# Altium footprint library IC_SOP.PcbLib: 36 footprints (part 2 of 4)
Each footprint in its own frame and in the unit in brackets; x right, y up, seen from the top. Pads: shape width x height; smd on the part's side, far side on the other; paste and mask are expansions set on the pad; w line width, h text height; cw(c..) or ccw(c..) is an arc to the next point about the centre after c.
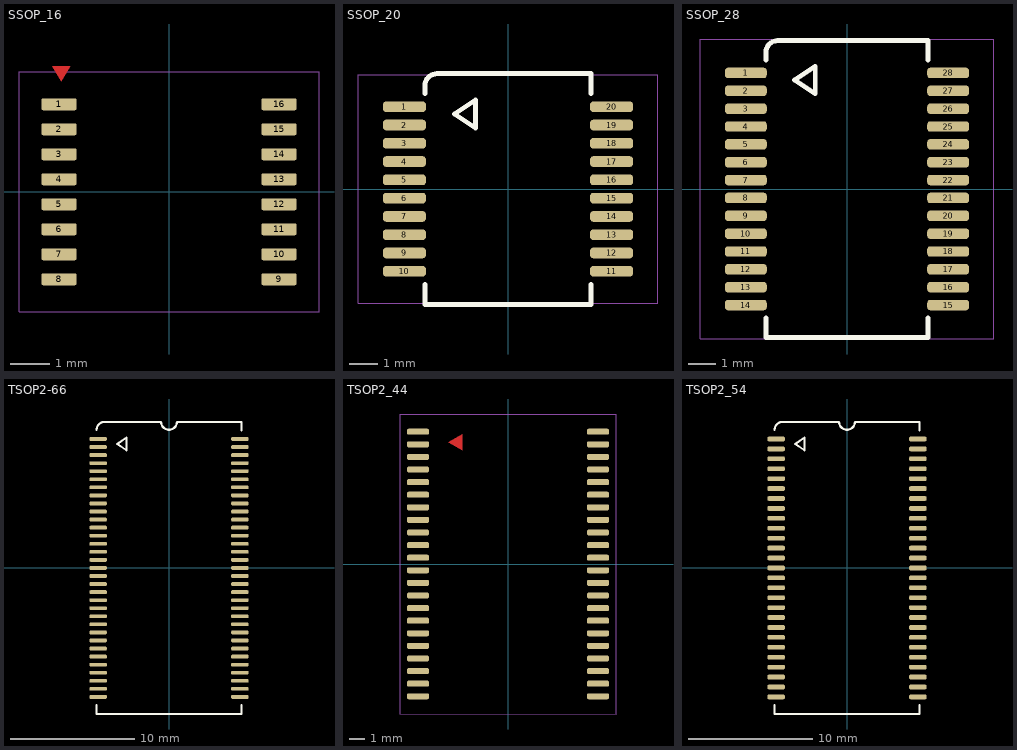
[diagram p1: the footprints below, top view; thin cyan lines are the x and y axes]

## SSOP_16 [mil]
pads (16):
  rrect30% 35x12 smd mask+2: 1(-110,87.5) 2(-110,62.5) 3(-110,37.5) 4(-110,12.5) 5(-110,-12.5) 6(-110,-37.5) 7(-110,-62.5) 8(-110,-87.5) 9(110,-87.5) 10(110,-62.5) 11(110,-37.5) 12(110,-12.5) 13(110,12.5) 14(110,37.5) 15(110,62.5) 16(110,87.5)
Top Layer:
  region: -108,110.73 -99,125.73 -117,125.73
Top Courtyard:
  lines w1: -150,-120 -150,120 150,120 150,-120 -150,-120
3D body "DBQ0016A.stp": height 62.5, standoff -1.5, extent -118.56,-96.49 118.56,96.5

## SSOP_20 [mil]
pads (20):
  rrect60% 60x15 smd: 1(-145,115.16) 2(-145,89.57) 3(-145,63.98) 4(-145,38.39) 5(-145,12.8) 6(-145,-12.8) 7(-145,-38.39) 8(-145,-63.98) 9(-145,-89.57) 10(-145,-115.16) 11(145,-115.16) 12(145,-89.57) 13(145,-63.98) 14(145,-38.39) 15(145,-12.8) 16(145,12.8) 17(145,38.39) 18(145,63.98) 19(145,89.57) 20(145,115.16)
Top Overlay:
  lines w7: -116.14,-133.86 -116.14,-161.42 116.14,-161.42 116.14,-133.86 ; -116.14,133.86 -116.14,144.99 cw(c-99.72,144.99) -99.72,161.42 116.14,161.42 116.14,133.86 ; -75,105 -45.47,85.31 -45.47,124.69 -75,105
Top Courtyard:
  lines w1: -210,-160 -210,160 210,160 210,-160 -210,-160
3D body: height 36, standoff 29, extent 99.57,-121.16 124.57,-109.16
3D body: height 7, standoff 0, extent 134.57,-121.16 154.57,-109.16
3D body: height 36, standoff 0, extent 124.57,-121.16 134.57,-109.16
3D body: height 36, standoff 29, extent 99.57,-95.57 124.57,-83.57
3D body: height 7, standoff 0, extent 134.57,-95.57 154.57,-83.57
3D body: height 36, standoff 0, extent 124.57,-95.57 134.57,-83.57
3D body: height 36, standoff 29, extent 99.57,-69.98 124.57,-57.98
3D body: height 7, standoff 0, extent 134.57,-69.98 154.57,-57.98
3D body: height 36, standoff 0, extent 124.57,-69.98 134.57,-57.98
3D body: height 36, standoff 29, extent 99.57,-44.39 124.57,-32.39
3D body: height 7, standoff 0, extent 134.57,-44.39 154.57,-32.39
3D body: height 36, standoff 0, extent 124.57,-44.39 134.57,-32.39
3D body: height 36, standoff 29, extent 99.57,-18.8 124.57,-6.8
3D body: height 7, standoff 0, extent 134.57,-18.8 154.57,-6.8
3D body: height 36, standoff 0, extent 124.57,-18.8 134.57,-6.8
3D body: height 36, standoff 29, extent 99.57,6.8 124.57,18.8
3D body: height 7, standoff 0, extent 134.57,6.8 154.57,18.8
3D body: height 36, standoff 0, extent 124.57,6.8 134.57,18.8
3D body: height 36, standoff 29, extent 99.57,32.39 124.57,44.39
3D body: height 7, standoff 0, extent 134.57,32.39 154.57,44.39
3D body: height 36, standoff 0, extent 124.57,32.39 134.57,44.39
3D body: height 36, standoff 29, extent 99.57,57.98 124.57,69.98
3D body: height 7, standoff 0, extent 134.57,57.98 154.57,69.98
3D body: height 36, standoff 0, extent 124.57,57.98 134.57,69.98
3D body: height 36, standoff 29, extent 99.57,83.57 124.57,95.57
3D body: height 7, standoff 0, extent 134.57,83.57 154.57,95.57
3D body: height 36, standoff 0, extent 124.57,83.57 134.57,95.57
3D body: height 36, standoff 29, extent 99.57,109.16 124.57,121.16
3D body: height 7, standoff 0, extent 134.57,109.16 154.57,121.16
3D body: height 36, standoff 0, extent 124.57,109.16 134.57,121.16
3D body: height 36, standoff 0, extent -134.57,-121.16 -124.57,-109.16
3D body: height 7, standoff 0, extent -154.57,-121.16 -134.57,-109.16
3D body: height 36, standoff 29, extent -124.57,-121.16 -99.57,-109.16
3D body: height 36, standoff 0, extent -134.57,-95.57 -124.57,-83.57
3D body: height 7, standoff 0, extent -154.57,-95.57 -134.57,-83.57
3D body: height 36, standoff 29, extent -124.57,-95.57 -99.57,-83.57
3D body: height 36, standoff 0, extent -134.57,-69.98 -124.57,-57.98
3D body: height 7, standoff 0, extent -154.57,-69.98 -134.57,-57.98
3D body: height 36, standoff 29, extent -124.57,-69.98 -99.57,-57.98
3D body: height 36, standoff 0, extent -134.57,-44.39 -124.57,-32.39
3D body: height 7, standoff 0, extent -154.57,-44.39 -134.57,-32.39
3D body: height 36, standoff 29, extent -124.57,-44.39 -99.57,-32.39
3D body: height 36, standoff 0, extent -134.57,-18.8 -124.57,-6.8
3D body: height 7, standoff 0, extent -154.57,-18.8 -134.57,-6.8
3D body: height 36, standoff 29, extent -124.57,-18.8 -99.57,-6.8
3D body: height 36, standoff 0, extent -134.57,6.8 -124.57,18.8
3D body: height 7, standoff 0, extent -154.57,6.8 -134.57,18.8
3D body: height 36, standoff 29, extent -124.57,6.8 -99.57,18.8
3D body: height 36, standoff 0, extent -134.57,32.39 -124.57,44.39
3D body: height 7, standoff 0, extent -154.57,32.39 -134.57,44.39
3D body: height 36, standoff 29, extent -124.57,32.39 -99.57,44.39
3D body: height 36, standoff 0, extent -134.57,57.98 -124.57,69.98
3D body: height 7, standoff 0, extent -154.57,57.98 -134.57,69.98
3D body: height 36, standoff 29, extent -124.57,57.98 -99.57,69.98
3D body: height 36, standoff 0, extent -134.57,83.57 -124.57,95.57
3D body: height 7, standoff 0, extent -154.57,83.57 -134.57,95.57
3D body: height 36, standoff 29, extent -124.57,83.57 -99.57,95.57
3D body: height 36, standoff 0, extent -134.57,109.16 -124.57,121.16
3D body: height 7, standoff 0, extent -154.57,109.16 -134.57,121.16
3D body: height 36, standoff 29, extent -124.57,109.16 -99.57,121.16
3D body: height 72, standoff 5, extent -104.33,-149.61 104.33,149.61
3D body: height 72.5, standoff 72, extent -92,104 -66,130

## SSOP_28 [mil]
pads (28):
  rrect60% 60x15 smd: 1(-145,166.34) 2(-145,140.75) 3(-145,115.16) 4(-145,89.57) 5(-145,63.98) 6(-145,38.39) 7(-145,12.8) 8(-145,-12.8) 9(-145,-38.39) 10(-145,-63.98) 11(-145,-89.57) 12(-145,-115.16) 13(-145,-140.75) 14(-145,-166.34) 15(145,-166.34) 16(145,-140.75) 17(145,-115.16) 18(145,-89.57) 19(145,-63.98) 20(145,-38.39) 21(145,-12.8) 22(145,12.8) 23(145,38.39) 24(145,63.98) 25(145,89.57) 26(145,115.16) 27(145,140.75) 28(145,166.34)
Top Overlay:
  lines w7: -116.14,-185.04 -116.14,-212.6 116.14,-212.6 116.14,-185.04 ; -116.14,185.04 -116.14,196.18 cw(c-99.72,196.18) -99.72,212.6 116.14,212.6 116.14,185.04 ; -75,156.18 -45.47,175.87 -45.47,136.5 -75,156.18
Top Courtyard:
  lines w1: -210,-215 210,-215 210,215 -210,215 -210,-215
3D body: height 72.5, standoff 72, extent -92,155.18 -66,181.18
3D body: height 72, standoff 5, extent -104.33,-200.79 104.33,200.79
3D body: height 36, standoff 29, extent -124.57,160.34 -99.57,172.34
3D body: height 7, standoff 0, extent -154.57,160.34 -134.57,172.34
3D body: height 36, standoff 0, extent -134.57,160.34 -124.57,172.34
3D body: height 36, standoff 29, extent -124.57,134.75 -99.57,146.75
3D body: height 7, standoff 0, extent -154.57,134.75 -134.57,146.75
3D body: height 36, standoff 0, extent -134.57,134.75 -124.57,146.75
3D body: height 36, standoff 29, extent -124.57,109.16 -99.57,121.16
3D body: height 7, standoff 0, extent -154.57,109.16 -134.57,121.16
3D body: height 36, standoff 0, extent -134.57,109.16 -124.57,121.16
3D body: height 36, standoff 29, extent -124.57,83.57 -99.57,95.57
3D body: height 7, standoff 0, extent -154.57,83.57 -134.57,95.57
3D body: height 36, standoff 0, extent -134.57,83.57 -124.57,95.57
3D body: height 36, standoff 29, extent -124.57,57.98 -99.57,69.98
3D body: height 7, standoff 0, extent -154.57,57.98 -134.57,69.98
3D body: height 36, standoff 0, extent -134.57,57.98 -124.57,69.98
3D body: height 36, standoff 29, extent -124.57,32.39 -99.57,44.39
3D body: height 7, standoff 0, extent -154.57,32.39 -134.57,44.39
3D body: height 36, standoff 0, extent -134.57,32.39 -124.57,44.39
3D body: height 36, standoff 29, extent -124.57,6.8 -99.57,18.8
3D body: height 7, standoff 0, extent -154.57,6.8 -134.57,18.8
3D body: height 36, standoff 0, extent -134.57,6.8 -124.57,18.8
3D body: height 36, standoff 29, extent -124.57,-18.8 -99.57,-6.8
3D body: height 7, standoff 0, extent -154.57,-18.8 -134.57,-6.8
3D body: height 36, standoff 0, extent -134.57,-18.8 -124.57,-6.8
3D body: height 36, standoff 29, extent -124.57,-44.39 -99.57,-32.39
3D body: height 7, standoff 0, extent -154.57,-44.39 -134.57,-32.39
3D body: height 36, standoff 0, extent -134.57,-44.39 -124.57,-32.39
3D body: height 36, standoff 29, extent -124.57,-69.98 -99.57,-57.98
3D body: height 7, standoff 0, extent -154.57,-69.98 -134.57,-57.98
3D body: height 36, standoff 0, extent -134.57,-69.98 -124.57,-57.98
3D body: height 36, standoff 0, extent 124.57,160.34 134.57,172.34
3D body: height 7, standoff 0, extent 134.57,160.34 154.57,172.34
3D body: height 36, standoff 29, extent 99.57,160.34 124.57,172.34
3D body: height 36, standoff 0, extent 124.57,134.75 134.57,146.75
3D body: height 7, standoff 0, extent 134.57,134.75 154.57,146.75
3D body: height 36, standoff 29, extent 99.57,134.75 124.57,146.75
3D body: height 36, standoff 0, extent 124.57,109.16 134.57,121.16
3D body: height 7, standoff 0, extent 134.57,109.16 154.57,121.16
3D body: height 36, standoff 29, extent 99.57,109.16 124.57,121.16
3D body: height 36, standoff 0, extent 124.57,83.57 134.57,95.57
3D body: height 7, standoff 0, extent 134.57,83.57 154.57,95.57
3D body: height 36, standoff 29, extent 99.57,83.57 124.57,95.57
3D body: height 36, standoff 0, extent 124.57,57.98 134.57,69.98
3D body: height 7, standoff 0, extent 134.57,57.98 154.57,69.98
3D body: height 36, standoff 29, extent 99.57,57.98 124.57,69.98
3D body: height 36, standoff 0, extent 124.57,32.39 134.57,44.39
3D body: height 7, standoff 0, extent 134.57,32.39 154.57,44.39
3D body: height 36, standoff 29, extent 99.57,32.39 124.57,44.39
3D body: height 36, standoff 0, extent 124.57,6.8 134.57,18.8
3D body: height 7, standoff 0, extent 134.57,6.8 154.57,18.8
3D body: height 36, standoff 29, extent 99.57,6.8 124.57,18.8
3D body: height 36, standoff 0, extent 124.57,-18.8 134.57,-6.8
3D body: height 7, standoff 0, extent 134.57,-18.8 154.57,-6.8
3D body: height 36, standoff 29, extent 99.57,-18.8 124.57,-6.8
3D body: height 36, standoff 0, extent 124.57,-44.39 134.57,-32.39
3D body: height 7, standoff 0, extent 134.57,-44.39 154.57,-32.39
3D body: height 36, standoff 29, extent 99.57,-44.39 124.57,-32.39
3D body: height 36, standoff 0, extent 124.57,-69.98 134.57,-57.98
3D body: height 7, standoff 0, extent 134.57,-69.98 154.57,-57.98
3D body: height 36, standoff 29, extent 99.57,-69.98 124.57,-57.98
3D body: height 36, standoff 29, extent 99.57,-172.34 124.57,-160.34
3D body: height 7, standoff 0, extent 134.57,-172.34 154.57,-160.34
3D body: height 36, standoff 0, extent 124.57,-172.34 134.57,-160.34
3D body: height 36, standoff 29, extent 99.57,-146.75 124.57,-134.75
3D body: height 7, standoff 0, extent 134.57,-146.75 154.57,-134.75
3D body: height 36, standoff 0, extent 124.57,-146.75 134.57,-134.75
3D body: height 36, standoff 29, extent 99.57,-121.16 124.57,-109.16
3D body: height 7, standoff 0, extent 134.57,-121.16 154.57,-109.16
3D body: height 36, standoff 0, extent 124.57,-121.16 134.57,-109.16
3D body: height 36, standoff 29, extent 99.57,-95.57 124.57,-83.57
3D body: height 7, standoff 0, extent 134.57,-95.57 154.57,-83.57
3D body: height 36, standoff 0, extent 124.57,-95.57 134.57,-83.57
3D body: height 36, standoff 0, extent -134.57,-172.34 -124.57,-160.34
3D body: height 7, standoff 0, extent -154.57,-172.34 -134.57,-160.34
3D body: height 36, standoff 29, extent -124.57,-172.34 -99.57,-160.34
3D body: height 36, standoff 0, extent -134.57,-146.75 -124.57,-134.75
3D body: height 7, standoff 0, extent -154.57,-146.75 -134.57,-134.75
3D body: height 36, standoff 29, extent -124.57,-146.75 -99.57,-134.75
3D body: height 36, standoff 0, extent -134.57,-121.16 -124.57,-109.16
3D body: height 7, standoff 0, extent -154.57,-121.16 -134.57,-109.16
3D body: height 36, standoff 29, extent -124.57,-121.16 -99.57,-109.16
3D body: height 36, standoff 0, extent -134.57,-95.57 -124.57,-83.57
3D body: height 7, standoff 0, extent -154.57,-95.57 -134.57,-83.57
3D body: height 36, standoff 29, extent -124.57,-95.57 -99.57,-83.57

## TSOP2-66 [mil]
pads (66):
  rrect60% 55x12 smd: 1(-225,409.45) 2(-225,383.86) 3(-225,358.27) 4(-225,332.68) 5(-225,307.09) 6(-225,281.5) 7(-225,255.91) 8(-225,230.31) 9(-225,204.72) 10(-225,179.13) 11(-225,153.54) 12(-225,127.95) 13(-225,102.36) 14(-225,76.77) 15(-225,51.18) 16(-225,25.59) 17(-225,0) 18(-225,-25.59) 19(-225,-51.18) 20(-225,-76.77) 21(-225,-102.36) 22(-225,-127.95) 23(-225,-153.54) 24(-225,-179.13) 25(-225,-204.72) 26(-225,-230.31) 27(-225,-255.91) 28(-225,-281.5) 29(-225,-307.09) 30(-225,-332.68) 31(-225,-358.27) 32(-225,-383.86) 33(-225,-409.45) 34(225,-409.45) 35(225,-383.86) 36(225,-358.27) 37(225,-332.68) 38(225,-307.09) 39(225,-281.5) 40(225,-255.91) 41(225,-230.31) 42(225,-204.72) 43(225,-179.13) 44(225,-153.54) 45(225,-127.95) 46(225,-102.36) 47(225,-76.77) 48(225,-51.18) 49(225,-25.59) 50(225,0) 51(225,25.59) 52(225,51.18) 53(225,76.77) 54(225,102.36) 55(225,127.95) 56(225,153.54) 57(225,179.13) 58(225,204.72) 59(225,230.31) 60(225,255.91) 61(225,281.5) 62(225,307.09) 63(225,332.68) 64(225,358.27) 65(225,383.86) 66(225,409.45)
Top Overlay:
  lines w7: -230,-436.18 -230,-463.74 230,-463.74 230,-436.18 ; -230,438.74 cw(c-205,438.74) -205,463.74 -25,463.74 ccw(c0,463.74) 25,463.74 230,463.74 230,436.18 ; -165,393.74 -135,413.74 -135,373.74 -165,393.74
3D body: height 38, standoff 31, extent -213,403 -197,416
3D body: height 38, standoff 0, extent -220,404 -213,415
3D body: height 7, standoff 0, extent -232,404 -220,415
3D body: height 48, standoff 5, extent -200,-437.4 200,437.4
3D body: height 48.5, standoff 48, extent -173,387 -147,413
3D body: height 7, standoff 0, extent -232,378.41 -220,389.41
3D body: height 38, standoff 0, extent -220,378.41 -213,389.41
3D body: height 38, standoff 31, extent -213,377.41 -197,390.41
3D body: height 7, standoff 0, extent -232,352.82 -220,363.82
3D body: height 38, standoff 0, extent -220,352.82 -213,363.82
3D body: height 38, standoff 31, extent -213,351.82 -197,364.82
3D body: height 7, standoff 0, extent -232,327.23 -220,338.23
3D body: height 38, standoff 0, extent -220,327.23 -213,338.23
3D body: height 38, standoff 31, extent -213,326.23 -197,339.23
3D body: height 7, standoff 0, extent -232,301.64 -220,312.64
3D body: height 38, standoff 0, extent -220,301.64 -213,312.64
3D body: height 38, standoff 31, extent -213,300.64 -197,313.64
3D body: height 7, standoff 0, extent -232,276.05 -220,287.05
3D body: height 38, standoff 0, extent -220,276.05 -213,287.05
3D body: height 38, standoff 31, extent -213,275.05 -197,288.05
3D body: height 38, standoff 31, extent -213,121.5 -197,134.5
3D body: height 38, standoff 0, extent -220,122.5 -213,133.5
3D body: height 7, standoff 0, extent -232,122.5 -220,133.5
3D body: height 38, standoff 31, extent -213,147.09 -197,160.09
3D body: height 38, standoff 0, extent -220,148.09 -213,159.09
3D body: height 7, standoff 0, extent -232,148.09 -220,159.09
3D body: height 38, standoff 31, extent -213,172.69 -197,185.69
3D body: height 38, standoff 0, extent -220,173.69 -213,184.69
3D body: height 7, standoff 0, extent -232,173.69 -220,184.69
3D body: height 38, standoff 31, extent -213,198.28 -197,211.28
3D body: height 38, standoff 0, extent -220,199.28 -213,210.28
3D body: height 7, standoff 0, extent -232,199.28 -220,210.28
3D body: height 38, standoff 31, extent -213,223.87 -197,236.87
3D body: height 38, standoff 0, extent -220,224.87 -213,235.87
3D body: height 7, standoff 0, extent -232,224.87 -220,235.87
3D body: height 7, standoff 0, extent -232,250.46 -220,261.46
3D body: height 38, standoff 0, extent -220,250.46 -213,261.46
3D body: height 38, standoff 31, extent -213,249.46 -197,262.46
3D body: height 38, standoff 31, extent -213,-32.04 -197,-19.04
3D body: height 38, standoff 0, extent -220,-31.04 -213,-20.04
3D body: height 7, standoff 0, extent -232,-31.04 -220,-20.04
3D body: height 38, standoff 31, extent -213,-6.45 -197,6.55
3D body: height 38, standoff 0, extent -220,-5.45 -213,5.55
3D body: height 7, standoff 0, extent -232,-5.45 -220,5.55
3D body: height 38, standoff 31, extent -213,19.14 -197,32.14
3D body: height 38, standoff 0, extent -220,20.14 -213,31.14
3D body: height 7, standoff 0, extent -232,20.14 -220,31.14
3D body: height 38, standoff 31, extent -213,44.73 -197,57.73
3D body: height 38, standoff 0, extent -220,45.73 -213,56.73
3D body: height 7, standoff 0, extent -232,45.73 -220,56.73
3D body: height 38, standoff 31, extent -213,70.32 -197,83.32
3D body: height 38, standoff 0, extent -220,71.32 -213,82.32
3D body: height 7, standoff 0, extent -232,71.32 -220,82.32
3D body: height 7, standoff 0, extent -232,96.91 -220,107.91
3D body: height 38, standoff 0, extent -220,96.91 -213,107.91
3D body: height 38, standoff 31, extent -213,95.91 -197,108.91
3D body: height 38, standoff 31, extent -213,-185.58 -197,-172.58
3D body: height 38, standoff 0, extent -220,-184.58 -213,-173.58
3D body: height 7, standoff 0, extent -232,-184.58 -220,-173.58
3D body: height 38, standoff 31, extent -213,-159.99 -197,-146.99
3D body: height 38, standoff 0, extent -220,-158.99 -213,-147.99
3D body: height 7, standoff 0, extent -232,-158.99 -220,-147.99
3D body: height 38, standoff 31, extent -213,-134.4 -197,-121.4
3D body: height 38, standoff 0, extent -220,-133.4 -213,-122.4
3D body: height 7, standoff 0, extent -232,-133.4 -220,-122.4
3D body: height 38, standoff 31, extent -213,-108.81 -197,-95.81
3D body: height 38, standoff 0, extent -220,-107.81 -213,-96.81
3D body: height 7, standoff 0, extent -232,-107.81 -220,-96.81
3D body: height 38, standoff 31, extent -213,-83.22 -197,-70.22
3D body: height 38, standoff 0, extent -220,-82.22 -213,-71.22
3D body: height 7, standoff 0, extent -232,-82.22 -220,-71.22
3D body: height 7, standoff 0, extent -232,-56.63 -220,-45.63
3D body: height 38, standoff 0, extent -220,-56.63 -213,-45.63
3D body: height 38, standoff 31, extent -213,-57.63 -197,-44.63
3D body: height 38, standoff 31, extent -213,-339.13 -197,-326.13
3D body: height 38, standoff 0, extent -220,-338.13 -213,-327.13
3D body: height 7, standoff 0, extent -232,-338.13 -220,-327.13
3D body: height 38, standoff 31, extent -213,-313.54 -197,-300.54
3D body: height 38, standoff 0, extent -220,-312.54 -213,-301.54
3D body: height 7, standoff 0, extent -232,-312.54 -220,-301.54
3D body: height 38, standoff 31, extent -213,-287.94 -197,-274.94
3D body: height 38, standoff 0, extent -220,-286.94 -213,-275.94
3D body: height 7, standoff 0, extent -232,-286.94 -220,-275.94
3D body: height 38, standoff 31, extent -213,-262.35 -197,-249.35
3D body: height 38, standoff 0, extent -220,-261.35 -213,-250.35
3D body: height 7, standoff 0, extent -232,-261.35 -220,-250.35
3D body: height 38, standoff 31, extent -213,-236.76 -197,-223.76
3D body: height 38, standoff 0, extent -220,-235.76 -213,-224.76
3D body: height 7, standoff 0, extent -232,-235.76 -220,-224.76
3D body: height 7, standoff 0, extent -232,-210.17 -220,-199.17
3D body: height 38, standoff 0, extent -220,-210.17 -213,-199.17
3D body: height 38, standoff 31, extent -213,-211.17 -197,-198.17
3D body: height 38, standoff 31, extent -213,-415.9 -197,-402.9
3D body: height 38, standoff 0, extent -220,-414.9 -213,-403.9
3D body: height 7, standoff 0, extent -232,-414.9 -220,-403.9
3D body: height 38, standoff 31, extent -213,-390.31 -197,-377.31
3D body: height 38, standoff 0, extent -220,-389.31 -213,-378.31
3D body: height 7, standoff 0, extent -232,-389.31 -220,-378.31
3D body: height 7, standoff 0, extent -232,-363.72 -220,-352.72
3D body: height 38, standoff 0, extent -220,-363.72 -213,-352.72
3D body: height 38, standoff 31, extent -213,-364.72 -197,-351.72
3D body: height 38, standoff 31, extent 197,351.72 213,364.72
3D body: height 38, standoff 0, extent 213,352.72 220,363.72
3D body: height 7, standoff 0, extent 220,352.72 232,363.72
3D body: height 7, standoff 0, extent 220,378.31 232,389.31
3D body: height 38, standoff 0, extent 213,378.31 220,389.31
3D body: height 38, standoff 31, extent 197,377.31 213,390.31
3D body: height 7, standoff 0, extent 220,403.9 232,414.9
3D body: height 38, standoff 0, extent 213,403.9 220,414.9
3D body: height 38, standoff 31, extent 197,402.9 213,415.9
3D body: height 38, standoff 31, extent 197,198.17 213,211.17
3D body: height 38, standoff 0, extent 213,199.17 220,210.17
3D body: height 7, standoff 0, extent 220,199.17 232,210.17
3D body: height 7, standoff 0, extent 220,224.76 232,235.76
3D body: height 38, standoff 0, extent 213,224.76 220,235.76
3D body: height 38, standoff 31, extent 197,223.76 213,236.76
3D body: height 7, standoff 0, extent 220,250.35 232,261.35
3D body: height 38, standoff 0, extent 213,250.35 220,261.35
3D body: height 38, standoff 31, extent 197,249.35 213,262.35
3D body: height 7, standoff 0, extent 220,275.94 232,286.94
3D body: height 38, standoff 0, extent 213,275.94 220,286.94
3D body: height 38, standoff 31, extent 197,274.94 213,287.94
3D body: height 7, standoff 0, extent 220,301.54 232,312.54
3D body: height 38, standoff 0, extent 213,301.54 220,312.54
3D body: height 38, standoff 31, extent 197,300.54 213,313.54
3D body: height 7, standoff 0, extent 220,327.13 232,338.13
3D body: height 38, standoff 0, extent 213,327.13 220,338.13
3D body: height 38, standoff 31, extent 197,326.13 213,339.13
3D body: height 38, standoff 31, extent 197,44.63 213,57.63
3D body: height 38, standoff 0, extent 213,45.63 220,56.63
3D body: height 7, standoff 0, extent 220,45.63 232,56.63
3D body: height 7, standoff 0, extent 220,71.22 232,82.22
3D body: height 38, standoff 0, extent 213,71.22 220,82.22
3D body: height 38, standoff 31, extent 197,70.22 213,83.22
3D body: height 7, standoff 0, extent 220,96.81 232,107.81
3D body: height 38, standoff 0, extent 213,96.81 220,107.81
3D body: height 38, standoff 31, extent 197,95.81 213,108.81
3D body: height 7, standoff 0, extent 220,122.4 232,133.4
3D body: height 38, standoff 0, extent 213,122.4 220,133.4
3D body: height 38, standoff 31, extent 197,121.4 213,134.4
3D body: height 7, standoff 0, extent 220,147.99 232,158.99
3D body: height 38, standoff 0, extent 213,147.99 220,158.99
3D body: height 38, standoff 31, extent 197,146.99 213,159.99
3D body: height 7, standoff 0, extent 220,173.58 232,184.58
3D body: height 38, standoff 0, extent 213,173.58 220,184.58
3D body: height 38, standoff 31, extent 197,172.58 213,185.58
3D body: height 38, standoff 31, extent 197,-108.91 213,-95.91
3D body: height 38, standoff 0, extent 213,-107.91 220,-96.91
3D body: height 7, standoff 0, extent 220,-107.91 232,-96.91
3D body: height 7, standoff 0, extent 220,-82.32 232,-71.32
3D body: height 38, standoff 0, extent 213,-82.32 220,-71.32
3D body: height 38, standoff 31, extent 197,-83.32 213,-70.32
3D body: height 7, standoff 0, extent 220,-56.73 232,-45.73
3D body: height 38, standoff 0, extent 213,-56.73 220,-45.73
3D body: height 38, standoff 31, extent 197,-57.73 213,-44.73
3D body: height 7, standoff 0, extent 220,-31.14 232,-20.14
3D body: height 38, standoff 0, extent 213,-31.14 220,-20.14
3D body: height 38, standoff 31, extent 197,-32.14 213,-19.14
3D body: height 7, standoff 0, extent 220,-5.55 232,5.45
3D body: height 38, standoff 0, extent 213,-5.55 220,5.45
3D body: height 38, standoff 31, extent 197,-6.55 213,6.45
3D body: height 7, standoff 0, extent 220,20.04 232,31.04
3D body: height 38, standoff 0, extent 213,20.04 220,31.04
3D body: height 38, standoff 31, extent 197,19.04 213,32.04
3D body: height 38, standoff 31, extent 197,-262.46 213,-249.46
3D body: height 38, standoff 0, extent 213,-261.46 220,-250.46
3D body: height 7, standoff 0, extent 220,-261.46 232,-250.46
3D body: height 7, standoff 0, extent 220,-235.87 232,-224.87
3D body: height 38, standoff 0, extent 213,-235.87 220,-224.87
3D body: height 38, standoff 31, extent 197,-236.87 213,-223.87
3D body: height 7, standoff 0, extent 220,-210.28 232,-199.28
3D body: height 38, standoff 0, extent 213,-210.28 220,-199.28
3D body: height 38, standoff 31, extent 197,-211.28 213,-198.28
3D body: height 7, standoff 0, extent 220,-184.69 232,-173.69
3D body: height 38, standoff 0, extent 213,-184.69 220,-173.69
3D body: height 38, standoff 31, extent 197,-185.69 213,-172.69
3D body: height 7, standoff 0, extent 220,-159.09 232,-148.09
3D body: height 38, standoff 0, extent 213,-159.09 220,-148.09
3D body: height 38, standoff 31, extent 197,-160.09 213,-147.09
3D body: height 7, standoff 0, extent 220,-133.5 232,-122.5
3D body: height 38, standoff 0, extent 213,-133.5 220,-122.5
3D body: height 38, standoff 31, extent 197,-134.5 213,-121.5
3D body: height 38, standoff 31, extent 197,-288.05 213,-275.05
3D body: height 38, standoff 0, extent 213,-287.05 220,-276.05
3D body: height 7, standoff 0, extent 220,-287.05 232,-276.05
3D body: height 38, standoff 31, extent 197,-313.64 213,-300.64
3D body: height 38, standoff 0, extent 213,-312.64 220,-301.64
3D body: height 7, standoff 0, extent 220,-312.64 232,-301.64
3D body: height 38, standoff 31, extent 197,-339.23 213,-326.23
3D body: height 38, standoff 0, extent 213,-338.23 220,-327.23
3D body: height 7, standoff 0, extent 220,-338.23 232,-327.23
3D body: height 38, standoff 31, extent 197,-364.82 213,-351.82
3D body: height 38, standoff 0, extent 213,-363.82 220,-352.82
3D body: height 7, standoff 0, extent 220,-363.82 232,-352.82
3D body: height 38, standoff 31, extent 197,-390.41 213,-377.41
3D body: height 38, standoff 0, extent 213,-389.41 220,-378.41
3D body: height 7, standoff 0, extent 220,-389.41 232,-378.41
3D body: height 7, standoff 0, extent 220,-415 232,-404
3D body: height 38, standoff 0, extent 213,-415 220,-404
3D body: height 38, standoff 31, extent 197,-416 213,-403

## TSOP2_44 [mil]
pads (44):
  rrect60% 55x15 smd: 1(-225,330.71) 2(-225,299.21) 3(-225,267.72) 4(-225,236.22) 5(-225,204.72) 6(-225,173.23) 7(-225,141.73) 8(-225,110.24) 9(-225,78.74) 10(-225,47.24) 11(-225,15.75) 12(-225,-15.75) 13(-225,-47.24) 14(-225,-78.74) 15(-225,-110.24) 16(-225,-141.73) 17(-225,-173.23) 18(-225,-204.72) 19(-225,-236.22) 20(-225,-267.72) 21(-225,-299.21) 22(-225,-330.71) 23(225,-330.71) 24(225,-299.21) 25(225,-267.72) 26(225,-236.22) 27(225,-204.72) 28(225,-173.23) 29(225,-141.73) 30(225,-110.24) 31(225,-78.74) 32(225,-47.24) 33(225,-15.75) 34(225,15.75) 35(225,47.24) 36(225,78.74) 37(225,110.24) 38(225,141.73) 39(225,173.23) 40(225,204.72) 41(225,236.22) 42(225,267.72) 43(225,299.21) 44(225,330.71)
Top Layer:
  region: -150,305 -115,285 -115,325
Top Courtyard:
  lines w1: -270,-375 -270,375 270,375 270,-375 -270,-375
3D body: height 38, standoff 31, extent 197,-211.72 213,-197.72
3D body: height 38, standoff 0, extent 213,-211.72 220,-197.72
3D body: height 7, standoff 0, extent 220,-211.72 232,-197.72
3D body: height 38, standoff 31, extent 197,-243.22 213,-229.22
3D body: height 38, standoff 0, extent 213,-243.22 220,-229.22
3D body: height 7, standoff 0, extent 220,-243.22 232,-229.22
3D body: height 38, standoff 31, extent 197,-274.72 213,-260.72
3D body: height 38, standoff 0, extent 213,-274.72 220,-260.72
3D body: height 7, standoff 0, extent 220,-274.72 232,-260.72
3D body: height 38, standoff 31, extent 197,-306.21 213,-292.21
3D body: height 38, standoff 0, extent 213,-306.21 220,-292.21
3D body: height 7, standoff 0, extent 220,-306.21 232,-292.21
3D body: height 38, standoff 31, extent 197,-337.71 213,-323.71
3D body: height 38, standoff 0, extent 213,-337.71 220,-323.71
3D body: height 7, standoff 0, extent 220,-337.71 232,-323.71
3D body: height 38, standoff 31, extent 197,-54.24 213,-40.24
3D body: height 38, standoff 0, extent 213,-54.24 220,-40.24
3D body: height 7, standoff 0, extent 220,-54.24 232,-40.24
3D body: height 38, standoff 31, extent 197,-85.74 213,-71.74
3D body: height 38, standoff 0, extent 213,-85.74 220,-71.74
3D body: height 7, standoff 0, extent 220,-85.74 232,-71.74
3D body: height 38, standoff 31, extent 197,-117.24 213,-103.24
3D body: height 38, standoff 0, extent 213,-117.24 220,-103.24
3D body: height 7, standoff 0, extent 220,-117.24 232,-103.24
3D body: height 38, standoff 31, extent 197,-148.73 213,-134.73
3D body: height 38, standoff 0, extent 213,-148.73 220,-134.73
3D body: height 7, standoff 0, extent 220,-148.73 232,-134.73
3D body: height 38, standoff 31, extent 197,-180.23 213,-166.23
3D body: height 38, standoff 0, extent 213,-180.23 220,-166.23
3D body: height 7, standoff 0, extent 220,-180.23 232,-166.23
3D body: height 38, standoff 31, extent 197,103.24 213,117.24
3D body: height 38, standoff 0, extent 213,103.24 220,117.24
3D body: height 7, standoff 0, extent 220,103.24 232,117.24
3D body: height 38, standoff 31, extent 197,71.74 213,85.74
3D body: height 38, standoff 0, extent 213,71.74 220,85.74
3D body: height 7, standoff 0, extent 220,71.74 232,85.74
3D body: height 38, standoff 31, extent 197,40.24 213,54.24
3D body: height 38, standoff 0, extent 213,40.24 220,54.24
3D body: height 7, standoff 0, extent 220,40.24 232,54.24
3D body: height 38, standoff 31, extent 197,8.75 213,22.75
3D body: height 38, standoff 0, extent 213,8.75 220,22.75
3D body: height 7, standoff 0, extent 220,8.75 232,22.75
3D body: height 38, standoff 31, extent 197,-22.75 213,-8.75
3D body: height 38, standoff 0, extent 213,-22.75 220,-8.75
3D body: height 7, standoff 0, extent 220,-22.75 232,-8.75
3D body: height 38, standoff 31, extent 197,260.72 213,274.72
3D body: height 38, standoff 0, extent 213,260.72 220,274.72
3D body: height 7, standoff 0, extent 220,260.72 232,274.72
3D body: height 38, standoff 31, extent 197,229.22 213,243.22
3D body: height 38, standoff 0, extent 213,229.22 220,243.22
3D body: height 7, standoff 0, extent 220,229.22 232,243.22
3D body: height 38, standoff 31, extent 197,197.72 213,211.72
3D body: height 38, standoff 0, extent 213,197.72 220,211.72
3D body: height 7, standoff 0, extent 220,197.72 232,211.72
3D body: height 38, standoff 31, extent 197,166.23 213,180.23
3D body: height 38, standoff 0, extent 213,166.23 220,180.23
3D body: height 7, standoff 0, extent 220,166.23 232,180.23
3D body: height 38, standoff 31, extent 197,134.73 213,148.73
3D body: height 38, standoff 0, extent 213,134.73 220,148.73
3D body: height 7, standoff 0, extent 220,134.73 232,148.73
3D body: height 38, standoff 31, extent 197,323.71 213,337.71
3D body: height 38, standoff 0, extent 213,323.71 220,337.71
3D body: height 7, standoff 0, extent 220,323.71 232,337.71
3D body: height 38, standoff 31, extent 197,292.21 213,306.21
3D body: height 38, standoff 0, extent 213,292.21 220,306.21
3D body: height 7, standoff 0, extent 220,292.21 232,306.21
3D body: height 7, standoff 0, extent -232,-306.21 -220,-292.21
3D body: height 38, standoff 0, extent -220,-306.21 -213,-292.21
3D body: height 38, standoff 31, extent -213,-306.21 -197,-292.21
3D body: height 7, standoff 0, extent -232,-337.71 -220,-323.71
3D body: height 38, standoff 0, extent -220,-337.71 -213,-323.71
3D body: height 38, standoff 31, extent -213,-337.71 -197,-323.71
3D body: height 7, standoff 0, extent -232,-148.73 -220,-134.73
3D body: height 38, standoff 0, extent -220,-148.73 -213,-134.73
3D body: height 38, standoff 31, extent -213,-148.73 -197,-134.73
3D body: height 7, standoff 0, extent -232,-180.23 -220,-166.23
3D body: height 38, standoff 0, extent -220,-180.23 -213,-166.23
3D body: height 38, standoff 31, extent -213,-180.23 -197,-166.23
3D body: height 7, standoff 0, extent -232,-211.72 -220,-197.72
3D body: height 38, standoff 0, extent -220,-211.72 -213,-197.72
3D body: height 38, standoff 31, extent -213,-211.72 -197,-197.72
3D body: height 7, standoff 0, extent -232,-243.22 -220,-229.22
3D body: height 38, standoff 0, extent -220,-243.22 -213,-229.22
3D body: height 38, standoff 31, extent -213,-243.22 -197,-229.22
3D body: height 7, standoff 0, extent -232,-274.72 -220,-260.72
3D body: height 38, standoff 0, extent -220,-274.72 -213,-260.72
3D body: height 38, standoff 31, extent -213,-274.72 -197,-260.72
3D body: height 7, standoff 0, extent -232,8.75 -220,22.75
3D body: height 38, standoff 0, extent -220,8.75 -213,22.75
3D body: height 38, standoff 31, extent -213,8.75 -197,22.75
3D body: height 7, standoff 0, extent -232,-22.75 -220,-8.75
3D body: height 38, standoff 0, extent -220,-22.75 -213,-8.75
3D body: height 38, standoff 31, extent -213,-22.75 -197,-8.75
3D body: height 7, standoff 0, extent -232,-54.24 -220,-40.24
3D body: height 38, standoff 0, extent -220,-54.24 -213,-40.24
3D body: height 38, standoff 31, extent -213,-54.24 -197,-40.24
3D body: height 7, standoff 0, extent -232,-85.74 -220,-71.74
3D body: height 38, standoff 0, extent -220,-85.74 -213,-71.74
3D body: height 38, standoff 31, extent -213,-85.74 -197,-71.74
3D body: height 7, standoff 0, extent -232,-117.24 -220,-103.24
3D body: height 38, standoff 0, extent -220,-117.24 -213,-103.24
3D body: height 38, standoff 31, extent -213,-117.24 -197,-103.24
3D body: height 7, standoff 0, extent -232,166.23 -220,180.23
3D body: height 38, standoff 0, extent -220,166.23 -213,180.23
3D body: height 38, standoff 31, extent -213,166.23 -197,180.23
3D body: height 7, standoff 0, extent -232,134.73 -220,148.73
3D body: height 38, standoff 0, extent -220,134.73 -213,148.73
3D body: height 38, standoff 31, extent -213,134.73 -197,148.73
3D body: height 7, standoff 0, extent -232,103.24 -220,117.24
3D body: height 38, standoff 0, extent -220,103.24 -213,117.24
3D body: height 38, standoff 31, extent -213,103.24 -197,117.24
3D body: height 7, standoff 0, extent -232,71.74 -220,85.74
3D body: height 38, standoff 0, extent -220,71.74 -213,85.74
3D body: height 38, standoff 31, extent -213,71.74 -197,85.74
3D body: height 7, standoff 0, extent -232,40.24 -220,54.24
3D body: height 38, standoff 0, extent -220,40.24 -213,54.24
3D body: height 38, standoff 31, extent -213,40.24 -197,54.24
3D body: height 38, standoff 31, extent -213,197.72 -197,211.72
3D body: height 38, standoff 0, extent -220,197.72 -213,211.72
3D body: height 7, standoff 0, extent -232,197.72 -220,211.72
3D body: height 38, standoff 31, extent -213,229.22 -197,243.22
3D body: height 38, standoff 0, extent -220,229.22 -213,243.22
3D body: height 7, standoff 0, extent -232,229.22 -220,243.22
3D body: height 38, standoff 31, extent -213,260.72 -197,274.72
3D body: height 38, standoff 0, extent -220,260.72 -213,274.72
3D body: height 7, standoff 0, extent -232,260.72 -220,274.72
3D body: height 38, standoff 31, extent -213,292.21 -197,306.21
3D body: height 38, standoff 0, extent -220,292.21 -213,306.21
3D body: height 7, standoff 0, extent -232,292.21 -220,306.21
3D body: height 38, standoff 31, extent -213,323.71 -197,337.71
3D body: height 38, standoff 0, extent -220,323.71 -213,337.71
3D body: height 7, standoff 0, extent -232,323.71 -220,337.71
3D body: height 48.5, standoff 48, extent -173,308.26 -147,334.26
3D body: height 48, standoff 5, extent -200,-362.4 200,362.4

## TSOP2_54 [mil]
pads (54):
  rrect60% 55x15 smd: 1(-225,409.45) 2(-225,377.95) 3(-225,346.46) 4(-225,314.96) 5(-225,283.46) 6(-225,251.97) 7(-225,220.47) 8(-225,188.98) 9(-225,157.48) 10(-225,125.98) 11(-225,94.49) 12(-225,62.99) 13(-225,31.5) 14(-225,0) 15(-225,-31.5) 16(-225,-62.99) 17(-225,-94.49) 18(-225,-125.98) 19(-225,-157.48) 20(-225,-188.98) 21(-225,-220.47) 22(-225,-251.97) 23(-225,-283.46) 24(-225,-314.96) 25(-225,-346.46) 26(-225,-377.95) 27(-225,-409.45) 28(225,-409.45) 29(225,-377.95) 30(225,-346.46) 31(225,-314.96) 32(225,-283.46) 33(225,-251.97) 34(225,-220.47) 35(225,-188.98) 36(225,-157.48) 37(225,-125.98) 38(225,-94.49) 39(225,-62.99) 40(225,-31.5) 41(225,0) 42(225,31.5) 43(225,62.99) 44(225,94.49) 45(225,125.98) 46(225,157.48) 47(225,188.98) 48(225,220.47) 49(225,251.97) 50(225,283.46) 51(225,314.96) 52(225,346.46) 53(225,377.95) 54(225,409.45)
Top Overlay:
  lines w7: -230,-436.18 -230,-463.74 230,-463.74 230,-436.18 ; -230,438.74 cw(c-205,438.74) -205,463.74 -25,463.74 ccw(c0,463.74) 25,463.74 230,463.74 230,436.18 ; -165,393.74 -135,413.74 -135,373.74 -165,393.74
3D body: height 7, standoff 0, extent 220,-416.45 232,-402.45
3D body: height 38, standoff 0, extent 213,-416.45 220,-402.45
3D body: height 38, standoff 31, extent 197,-416.45 213,-402.45
3D body: height 7, standoff 0, extent 220,-384.95 232,-370.95
3D body: height 38, standoff 0, extent 213,-384.95 220,-370.95
3D body: height 38, standoff 31, extent 197,-384.95 213,-370.95
3D body: height 7, standoff 0, extent 220,-353.46 232,-339.46
3D body: height 38, standoff 0, extent 213,-353.46 220,-339.46
3D body: height 38, standoff 31, extent 197,-353.46 213,-339.46
3D body: height 7, standoff 0, extent 220,-321.96 232,-307.96
3D body: height 38, standoff 0, extent 213,-321.96 220,-307.96
3D body: height 38, standoff 31, extent 197,-321.96 213,-307.96
3D body: height 7, standoff 0, extent 220,-290.46 232,-276.46
3D body: height 38, standoff 0, extent 213,-290.46 220,-276.46
3D body: height 38, standoff 31, extent 197,-290.46 213,-276.46
3D body: height 38, standoff 31, extent 197,-132.98 213,-118.98
3D body: height 38, standoff 0, extent 213,-132.98 220,-118.98
3D body: height 7, standoff 0, extent 220,-132.98 232,-118.98
3D body: height 38, standoff 31, extent 197,-164.48 213,-150.48
3D body: height 38, standoff 0, extent 213,-164.48 220,-150.48
3D body: height 7, standoff 0, extent 220,-164.48 232,-150.48
3D body: height 38, standoff 31, extent 197,-195.98 213,-181.98
3D body: height 38, standoff 0, extent 213,-195.98 220,-181.98
3D body: height 7, standoff 0, extent 220,-195.98 232,-181.98
3D body: height 38, standoff 31, extent 197,-227.47 213,-213.47
3D body: height 38, standoff 0, extent 213,-227.47 220,-213.47
3D body: height 7, standoff 0, extent 220,-227.47 232,-213.47
3D body: height 38, standoff 31, extent 197,-258.97 213,-244.97
3D body: height 38, standoff 0, extent 213,-258.97 220,-244.97
3D body: height 7, standoff 0, extent 220,-258.97 232,-244.97
3D body: height 38, standoff 31, extent 197,24.5 213,38.5
3D body: height 38, standoff 0, extent 213,24.5 220,38.5
3D body: height 7, standoff 0, extent 220,24.5 232,38.5
3D body: height 38, standoff 31, extent 197,-7 213,7
3D body: height 38, standoff 0, extent 213,-7 220,7
3D body: height 7, standoff 0, extent 220,-7 232,7
3D body: height 38, standoff 31, extent 197,-38.5 213,-24.5
3D body: height 38, standoff 0, extent 213,-38.5 220,-24.5
3D body: height 7, standoff 0, extent 220,-38.5 232,-24.5
3D body: height 38, standoff 31, extent 197,-69.99 213,-55.99
3D body: height 38, standoff 0, extent 213,-69.99 220,-55.99
3D body: height 7, standoff 0, extent 220,-69.99 232,-55.99
3D body: height 38, standoff 31, extent 197,-101.49 213,-87.49
3D body: height 38, standoff 0, extent 213,-101.49 220,-87.49
3D body: height 7, standoff 0, extent 220,-101.49 232,-87.49
3D body: height 38, standoff 31, extent 197,181.98 213,195.98
3D body: height 38, standoff 0, extent 213,181.98 220,195.98
3D body: height 7, standoff 0, extent 220,181.98 232,195.98
3D body: height 38, standoff 31, extent 197,150.48 213,164.48
3D body: height 38, standoff 0, extent 213,150.48 220,164.48
3D body: height 7, standoff 0, extent 220,150.48 232,164.48
3D body: height 38, standoff 31, extent 197,118.98 213,132.98
3D body: height 38, standoff 0, extent 213,118.98 220,132.98
3D body: height 7, standoff 0, extent 220,118.98 232,132.98
3D body: height 38, standoff 31, extent 197,87.49 213,101.49
3D body: height 38, standoff 0, extent 213,87.49 220,101.49
3D body: height 7, standoff 0, extent 220,87.49 232,101.49
3D body: height 38, standoff 31, extent 197,55.99 213,69.99
3D body: height 38, standoff 0, extent 213,55.99 220,69.99
3D body: height 7, standoff 0, extent 220,55.99 232,69.99
3D body: height 38, standoff 31, extent 197,339.46 213,353.46
3D body: height 38, standoff 0, extent 213,339.46 220,353.46
3D body: height 7, standoff 0, extent 220,339.46 232,353.46
3D body: height 38, standoff 31, extent 197,307.96 213,321.96
3D body: height 38, standoff 0, extent 213,307.96 220,321.96
3D body: height 7, standoff 0, extent 220,307.96 232,321.96
3D body: height 38, standoff 31, extent 197,276.46 213,290.46
3D body: height 38, standoff 0, extent 213,276.46 220,290.46
3D body: height 7, standoff 0, extent 220,276.46 232,290.46
3D body: height 38, standoff 31, extent 197,244.97 213,258.97
3D body: height 38, standoff 0, extent 213,244.97 220,258.97
3D body: height 7, standoff 0, extent 220,244.97 232,258.97
3D body: height 38, standoff 31, extent 197,213.47 213,227.47
3D body: height 38, standoff 0, extent 213,213.47 220,227.47
3D body: height 7, standoff 0, extent 220,213.47 232,227.47
3D body: height 38, standoff 31, extent 197,402.45 213,416.45
3D body: height 38, standoff 0, extent 213,402.45 220,416.45
3D body: height 7, standoff 0, extent 220,402.45 232,416.45
3D body: height 38, standoff 31, extent 197,370.95 213,384.95
3D body: height 38, standoff 0, extent 213,370.95 220,384.95
3D body: height 7, standoff 0, extent 220,370.95 232,384.95
3D body: height 7, standoff 0, extent -232,-384.95 -220,-370.95
3D body: height 38, standoff 0, extent -220,-384.95 -213,-370.95
3D body: height 38, standoff 31, extent -213,-384.95 -197,-370.95
3D body: height 7, standoff 0, extent -232,-416.45 -220,-402.45
3D body: height 38, standoff 0, extent -220,-416.45 -213,-402.45
3D body: height 38, standoff 31, extent -213,-416.45 -197,-402.45
3D body: height 7, standoff 0, extent -232,-227.47 -220,-213.47
3D body: height 38, standoff 0, extent -220,-227.47 -213,-213.47
3D body: height 38, standoff 31, extent -213,-227.47 -197,-213.47
3D body: height 7, standoff 0, extent -232,-258.97 -220,-244.97
3D body: height 38, standoff 0, extent -220,-258.97 -213,-244.97
3D body: height 38, standoff 31, extent -213,-258.97 -197,-244.97
3D body: height 7, standoff 0, extent -232,-290.46 -220,-276.46
3D body: height 38, standoff 0, extent -220,-290.46 -213,-276.46
3D body: height 38, standoff 31, extent -213,-290.46 -197,-276.46
3D body: height 7, standoff 0, extent -232,-321.96 -220,-307.96
3D body: height 38, standoff 0, extent -220,-321.96 -213,-307.96
3D body: height 38, standoff 31, extent -213,-321.96 -197,-307.96
3D body: height 7, standoff 0, extent -232,-353.46 -220,-339.46
3D body: height 38, standoff 0, extent -220,-353.46 -213,-339.46
3D body: height 38, standoff 31, extent -213,-353.46 -197,-339.46
3D body: height 7, standoff 0, extent -232,-69.99 -220,-55.99
3D body: height 38, standoff 0, extent -220,-69.99 -213,-55.99
3D body: height 38, standoff 31, extent -213,-69.99 -197,-55.99
3D body: height 7, standoff 0, extent -232,-101.49 -220,-87.49
3D body: height 38, standoff 0, extent -220,-101.49 -213,-87.49
3D body: height 38, standoff 31, extent -213,-101.49 -197,-87.49
3D body: height 7, standoff 0, extent -232,-132.98 -220,-118.98
3D body: height 38, standoff 0, extent -220,-132.98 -213,-118.98
3D body: height 38, standoff 31, extent -213,-132.98 -197,-118.98
3D body: height 7, standoff 0, extent -232,-164.48 -220,-150.48
3D body: height 38, standoff 0, extent -220,-164.48 -213,-150.48
3D body: height 38, standoff 31, extent -213,-164.48 -197,-150.48
3D body: height 7, standoff 0, extent -232,-195.98 -220,-181.98
3D body: height 38, standoff 0, extent -220,-195.98 -213,-181.98
3D body: height 38, standoff 31, extent -213,-195.98 -197,-181.98
3D body: height 7, standoff 0, extent -232,87.49 -220,101.49
3D body: height 38, standoff 0, extent -220,87.49 -213,101.49
3D body: height 38, standoff 31, extent -213,87.49 -197,101.49
3D body: height 7, standoff 0, extent -232,55.99 -220,69.99
3D body: height 38, standoff 0, extent -220,55.99 -213,69.99
3D body: height 38, standoff 31, extent -213,55.99 -197,69.99
3D body: height 7, standoff 0, extent -232,24.5 -220,38.5
3D body: height 38, standoff 0, extent -220,24.5 -213,38.5
3D body: height 38, standoff 31, extent -213,24.5 -197,38.5
3D body: height 7, standoff 0, extent -232,-7 -220,7
3D body: height 38, standoff 0, extent -220,-7 -213,7
3D body: height 38, standoff 31, extent -213,-7 -197,7
3D body: height 7, standoff 0, extent -232,-38.5 -220,-24.5
3D body: height 38, standoff 0, extent -220,-38.5 -213,-24.5
3D body: height 38, standoff 31, extent -213,-38.5 -197,-24.5
3D body: height 7, standoff 0, extent -232,244.97 -220,258.97
3D body: height 38, standoff 0, extent -220,244.97 -213,258.97
3D body: height 38, standoff 31, extent -213,244.97 -197,258.97
3D body: height 7, standoff 0, extent -232,213.47 -220,227.47
3D body: height 38, standoff 0, extent -220,213.47 -213,227.47
3D body: height 38, standoff 31, extent -213,213.47 -197,227.47
3D body: height 7, standoff 0, extent -232,181.98 -220,195.98
3D body: height 38, standoff 0, extent -220,181.98 -213,195.98
3D body: height 38, standoff 31, extent -213,181.98 -197,195.98
3D body: height 7, standoff 0, extent -232,150.48 -220,164.48
3D body: height 38, standoff 0, extent -220,150.48 -213,164.48
3D body: height 38, standoff 31, extent -213,150.48 -197,164.48
3D body: height 7, standoff 0, extent -232,118.98 -220,132.98
3D body: height 38, standoff 0, extent -220,118.98 -213,132.98
3D body: height 38, standoff 31, extent -213,118.98 -197,132.98
3D body: height 38, standoff 31, extent -213,276.46 -197,290.46
3D body: height 38, standoff 0, extent -220,276.46 -213,290.46
3D body: height 7, standoff 0, extent -232,276.46 -220,290.46
3D body: height 38, standoff 31, extent -213,307.96 -197,321.96
3D body: height 38, standoff 0, extent -220,307.96 -213,321.96
3D body: height 7, standoff 0, extent -232,307.96 -220,321.96
3D body: height 38, standoff 31, extent -213,339.46 -197,353.46
3D body: height 38, standoff 0, extent -220,339.46 -213,353.46
3D body: height 7, standoff 0, extent -232,339.46 -220,353.46
3D body: height 38, standoff 31, extent -213,370.95 -197,384.95
3D body: height 38, standoff 0, extent -220,370.95 -213,384.95
3D body: height 7, standoff 0, extent -232,370.95 -220,384.95
3D body: height 38, standoff 31, extent -213,402.45 -197,416.45
3D body: height 38, standoff 0, extent -220,402.45 -213,416.45
3D body: height 7, standoff 0, extent -232,402.45 -220,416.45
3D body: height 48, standoff 5, extent -200,-437.4 200,437.4
3D body: height 48.5, standoff 48, extent -173,387 -147,413